# Altium footprint library LSS11VL.PcbLib: 1 footprints
Each footprint in its own frame and in the unit in brackets; x right, y up, seen from the top. Pads: shape width x height; smd on the part's side, far side on the other; paste and mask are expansions set on the pad; w line width, h text height; cw(c..) or ccw(c..) is an arc to the next point about the centre after c.
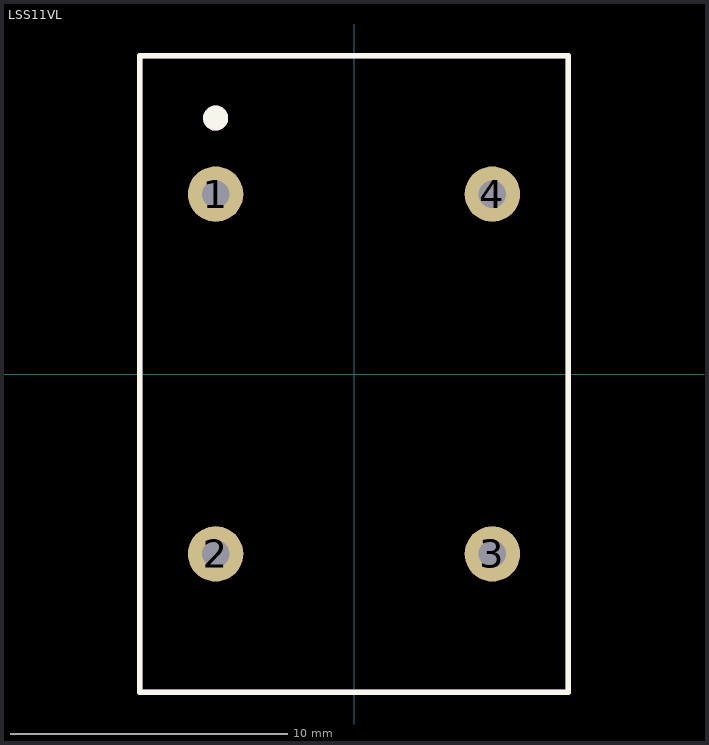
[diagram p0: the footprint, top view; thin cyan lines are the x and y axes]

## LSS11VL [mm] "Common Mode SS Coils, 11VL Series"
height 19.5
pads (4):
  round 2 hole 1: 1(-5,6.5) 2(-5,-6.5) 3(5,-6.5) 4(5,6.5)
Top Overlay:
  circle w0.5: c-5,9.25 r0.2
  lines w0.2: -7.75,-11.5 7.75,-11.5 7.75,11.5 -7.75,11.5 -7.75,-11.5
Top Assembly:
  circle w0.5: c-5,9.25 r0.2
  lines w0.2: -7.75,-11.5 7.75,-11.5 7.75,11.5 -7.75,11.5 -7.75,-11.5
3D body "ss11vl-05230.stp": height 20.6, standoff -3.4, extent -7.75,-11.501 7.75,11.5